# Altium schematic symbol library CM1K.SchLib: 1 symbol
Pins are listed as number, name and electrical type; pins without a type are passive.

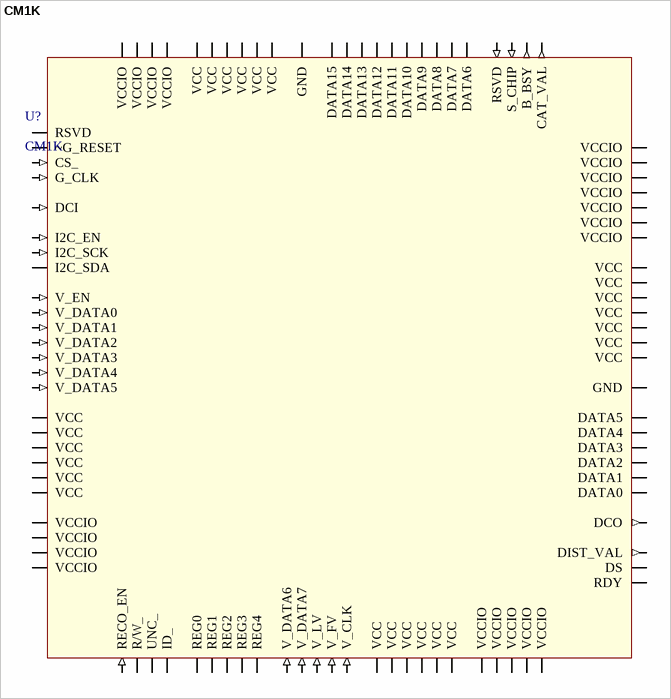
[diagram p0: symbol CM1K]

## CM1K
designator U?
footprint TSQFP50P1600X1600X120-100N (TSQFP, 100-Leads, Body 14.00x14.00mm, Pitch 0.50mm, IPC Medium Density)
pins: 1 RSVD (io), 2 VCCIO (power), 3 ~G_RESET (io), 4 VCC (power), 5 I2C_EN (in), 6 CS_ (in), 7 VCCIO (power), 8 G_CLK (in), 9 VCCIO (power), 10 I2C_SCK (in), 11 VCC (power), 12 VCCIO (power), 13 DCI (in), 14 VCC (power), 15 I2C_SDA (io), 16 V_EN (in), 17 VCC (power), 18 V_DATA0 (in), 19 V_DATA1 (in), 20 VCC (power), 21 V_DATA2 (in), 22 VCC (power), 23 V_DATA3 (in), 24 V_DATA4 (in), 25 V_DATA5 (in), 26 V_DATA6 (in), 27 V_DATA7 (in), 28 V_LV (in), 29 VCC (power), 30 V_FV (in), 31 VCC (power), 32 VCCIO (power), 33 V_CLK (in), 34 VCCIO (power), 35 VCC (power), 36 REG0 (io), 37 REG1 (io), 38 VCC (power), 39 VCCIO (power), 40 REG2 (io), 41 REG3 (io), 42 VCC (power), 43 REG4 (io), 44 VCCIO (power), 45 VCC (power), 46 RECO_EN (in), 47 R/W_ (io), 48 VCCIO (power), 49 UNC_ (io), 50 ID_ (io), 51 VCCIO (power), 52 RDY (io), 53 DS (io), 54 VCCIO (power), 55 VCC (power), 56 VCC (power), 57 GND (power), 58 DIST_VAL (out), 59 VCCIO (power), 60 VCC (power), 61 VCC (power), 62 DCO (out), 63 DATA0 (io), 64 VCCIO (power), 65 DATA1 (io), 66 VCC (power), 67 DATA2 (io), 68 VCCIO (power), 69 DATA3 (io), 70 VCC (power), 71 VCCIO (power), 72 VCC (power), 73 DATA4 (io), 74 VCCIO (power), 75 DATA5 (io), 76 DATA6 (io), 77 VCCIO (power), 78 DATA7 (io), 79 VCCIO (power), 80 DATA8 (io), 81 DATA9 (io), 82 VCCIO (power), 83 VCC (power), 84 DATA10 (io), 85 VCC (power), 86 VCCIO (power), 87 DATA11 (io), 88 DATA12 (io), 89 VCC (power), 90 GND (power), 91 DATA13 (io), 92 VCC (power), 93 DATA14 (io), 94 VCC (power), 95 DATA15 (io), 96 CAT_VAL (out), 97 B_BSY (out), 98 VCC (power), 99 S_CHIP (in), 100 RSVD (in)